# EAGLE library part ADXL335 (library ADXL335)
ADXL335 Package: LFCSP16 Descripton: small, low power, 3-Axis ±3g Accelerometer Author: Braekevelt Wim Student @ KHBO Ostend Mail : braekevelt.wim@telenet.be <mailto:braekevelt.wim@telenet.be?subject=ADXL335 remark>
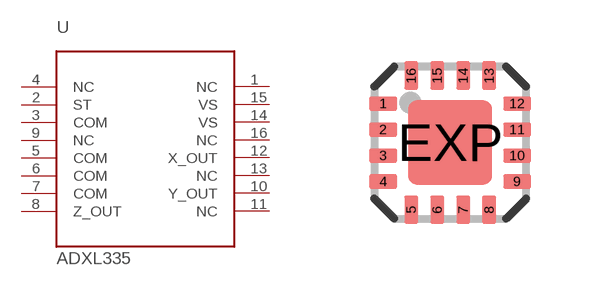
[diagram p0: symbol with the pads of LFCSP16; footprint LFCSP16]

Designator prefix -

## ADXL335 (IC: ADXL335)  [LFCSP16]
1  NC
2  ST
3  COM
4  NC
5  COM
6  COM
7  COM
8  Z_OUT
9  NC
10  Y_OUT
11  NC
12  X_OUT
13  NC
14  VS
15  VS
16  NC

## Footprint LFCSP16 (pad centres in mm)
smd 0.7 x 0.35: 1 -1.675,0.975; 2 -1.675,0.325; 3 -1.675,-0.325; 4 -1.675,-0.975; 9 1.675,-0.975; 10 1.675,-0.325; 11 1.675,0.325; 12 1.675,0.975
smd 0.35 x 0.7: 5 -0.975,-1.675; 6 -0.325,-1.675; 7 0.325,-1.675; 8 0.975,-1.675; 13 0.975,1.675; 14 0.325,1.675; 15 -0.325,1.675; 16 -0.975,1.675
smd 2.1 x 2.1: EXP 0,0